# Altium footprint library Virtex.PcbLib: 51 footprints (part 2 of 4)
Each footprint in its own frame and in the unit in brackets; x right, y up, seen from the top. Pads: shape width x height; smd on the part's side, far side on the other; paste and mask are expansions set on the pad; w line width, h text height; cw(c..) or ccw(c..) is an arc to the next point about the centre after c.
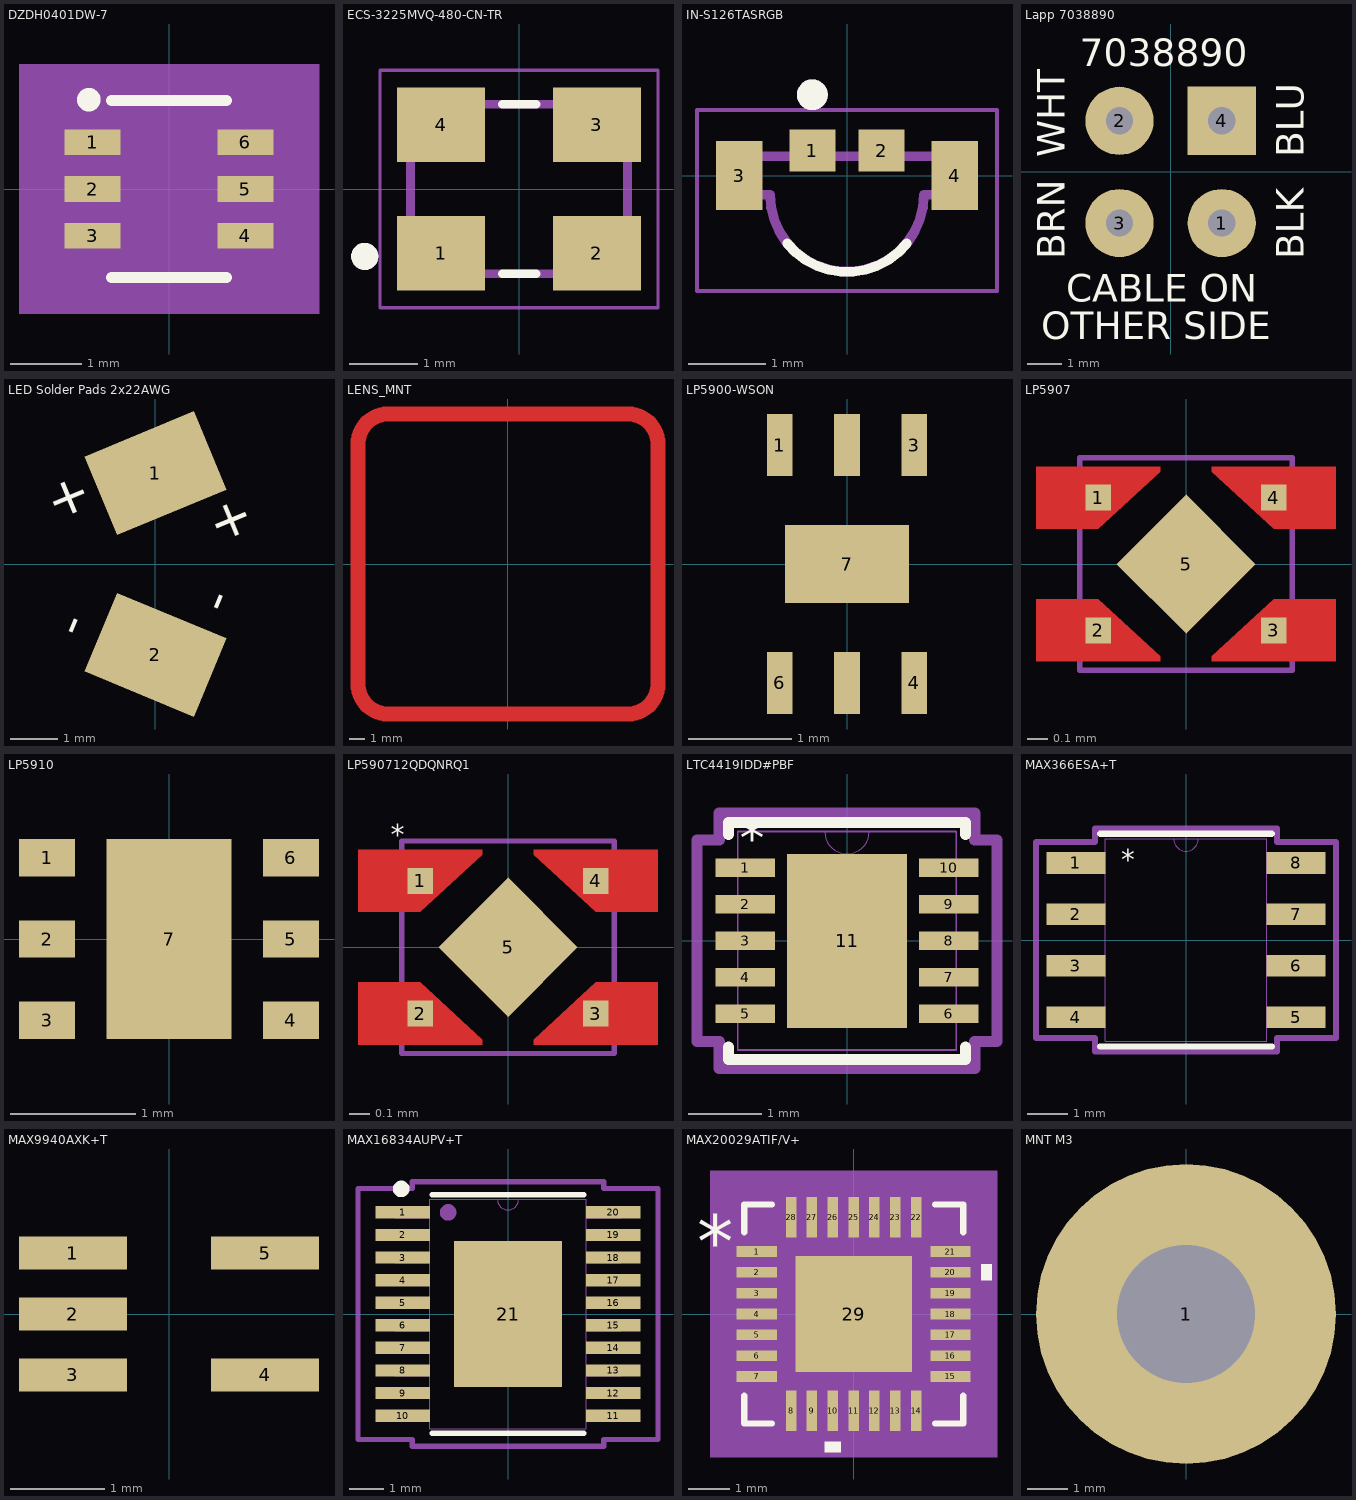
[diagram p1: the footprints below, top view; thin cyan lines are the x and y axes]

## DZDH0401DW-7 [mil]
pads (6):
  rect 30.81x14 smd paste+0 mask+0: 1(-41.9,25.59) 2(-41.9,0) 3(-41.9,-25.59) 4(41.9,-25.59) 5(41.9,0) 6(41.9,25.59)
Top Overlay:
  circle w10: c-44,49 r1.41
  lines w6: -31.5,-48.5 31.5,-48.5 ; -31.5,48.5 31.5,48.5
Bottom Courtyard:
  region: 82.31,-68.5 -82.31,-68.5 -82.31,68.5 82.31,68.5
Mechanical 13:
  lines w0: -12,43.5 ccw(c0,43.5) 12,43.5
  lines w1: -43.31,-31.59 -26.5,-31.59 -26.5,-19.59 -43.31,-19.59 -43.31,-31.59 ; -43.31,-6 -26.5,-6 -26.5,6 -43.31,6 -43.31,-6 ; -43.31,19.59 -26.5,19.59 -26.5,31.59 -43.31,31.59 -43.31,19.59 ; -26.5,-43.5 -26.5,43.5 26.5,43.5 26.5,-43.5 -26.5,-43.5 ; 26.5,-31.59 43.31,-31.59 43.31,-19.59 26.5,-19.59 26.5,-31.59 ; 26.5,-6 43.31,-6 43.31,6 26.5,6 26.5,-6 ; 26.5,19.59 43.31,19.59 43.31,31.59 26.5,31.59 26.5,19.59
  text "*" at -24,-9.5 h50
Mechanical 15:
  region: -36.5,-42.59 -67.31,-42.59 -67.31,42.59 -36.5,42.59 -36.5,53.5 36.5,53.5 36.5,42.59 67.31,42.59 67.31,-42.59 36.5,-42.59 36.5,-53.5 -36.5,-53.5
  lines w6: -67.31,-42.59 -36.5,-42.59 -36.5,-53.5 36.5,-53.5 36.5,-42.59 67.31,-42.59 67.31,42.59 36.5,42.59 36.5,53.5 -36.5,53.5 -36.5,42.59 -67.31,42.59 -67.31,-42.59
3D body "SOIC6_DZDH0401DW-7_DIO.step": height 43.11, standoff 0, extent -43.31,-43.5 43.31,43.5

## ECS-3225MVQ-480-CN-TR [mm]
pads (4):
  rect 1.3x1.1 smd: 1(-1.15,-0.95) 2(1.15,-0.95) 3(1.15,0.95) 4(-1.15,0.95)
Top Overlay:
  circle w0.2: c-2.275,-0.994 r0.1
  lines w0.127: -0.25,-1.25 0.25,-1.25 ; -0.25,1.25 0.25,1.25
Mechanical 13:
  circle w0.2: c-2.275,-0.994 r0.1
  lines w0.127: -1.6,-1.25 -1.6,1.25 1.6,1.25 1.6,-1.25 -1.6,-1.25
Mechanical 15:
  lines w0.05: -2.05,-1.75 2.05,-1.75 2.05,1.75 -2.05,1.75 -2.05,-1.75
3D body "ECS-3225MVQ-480-CN-TR.step": height 1.21, standoff 0.01, extent -1.6,-1.255 1.6,1.245

## IN-S126TASRGB [mm]
pads (4):
  rect 0.6x0.55 smd: 1(-0.45,0.325) 2(0.45,0.325)
  rect 0.6x0.9 smd: 3(-1.4,0) 4(1.4,0)
Top Overlay:
  circle w0.2: c-0.45,1.05 r0.1
  lines w0.127: -0.777,-0.884 ccw(c0,-0.254) 0.777,-0.884
Mechanical 13:
  circle w0.2: c-0.45,1.05 r0.1
  lines w0.127: -1.6,-0.25 -1.6,0.25 1.6,0.25 1.6,-0.25 1,-0.25 cw(c0,-0.25) -1,-0.25 -1.6,-0.25
Mechanical 15:
  lines w0.05: -1.95,-1.5 -1.95,0.85 1.95,0.85 1.95,-1.5 -1.95,-1.5
3D body "IN-S126TASRGB.STEP": height 1, standoff 0, extent -1.6,-1.241 1.6,0.25

## Lapp 7038890 [mm]
pads (4):
  round 2 hole 0.8: 1(1.5,-1.5) 2(-1.5,1.5) 3(-1.5,-1.5)
  rect 2x2 hole 0.8: 4(1.5,1.5)
Top Overlay:
  text "OTHER SIDE" at -3.799,-4.9 h0.8
  text "7038890" at -2.666,3.1 h0.8
  text "CABLE ON" at -3.066,-3.8 h0.8
  text "BLU" at 3.9,0.434 h0.8
  text "BLK" at 3.9,-2.566 h0.8
  text "WHT" at -3.1,0.434 h0.8
  text "BRN" at -3.1,-2.566 h0.8
Bottom Overlay:
  text "BLK" at 3.1,-2.566 h0.8
  text "BLU" at 3.1,0.434 h0.8
  text "CABLE ON" at 3.066,-3.8 h0.8
  text "THIS SIDE" at 3.332,-4.9 h0.8
  text "BRN" at -3.9,-2.566 h0.8
  text "7038890" at 2.666,3.1 h0.8
  text "WHT" at -3.9,0.434 h0.8

## LED Solder Pads 2x22AWG [mm]
pads (2):
  rect 2.5x1.8 smd rot 22.5: 1(0,1.916)
  rect 2.5x1.8 smd rot 157.5 paste+0: 2(0,-1.916)
Top Overlay:
  text "-" at -1.533,-1.599 h0.8
  text "+" at -1.329,1.107 h0.8
  text "+" at 1.307,0.429 h0.8
  text "-" at 1.133,-0.501 h0.8

## LENS_MNT [mm]
Top Layer:
  lines w1: -10,-8 ccw(c-8,-8) -8,-10 8,-10 ccw(c8,-8) 10,-8 10,8 ccw(c8,8) 8,10 -8,10 ccw(c-8,8) -10,8 -10,-8
3D body "Lens Mount (34V0-LN-MNT) v81.step": height 0, standoff -14.5, extent -19.193,-19.193 19.193,19.193

## LP5900-WSON [mm]
pads (7):
  rrect0% 0.25x0.6 smd: 1(-0.65,1.15) 3(0.65,1.15) 4(0.65,-1.15) 6(-0.65,-1.15) ""(0,-1.15) ""(0,1.15)
  rrect0% 1.2x0.75 smd: 7(0,0)
3D body "LP5900-WSON.step": height 0.8, standoff 0, extent -1.092,-1.25 1.108,1.25

## LP5907 [mil]
pads (5):
  rect 5x5 smd: 1(-16.93,12.8) 2(-16.93,-12.8) 3(16.93,-12.8) 4(16.93,12.8)
  rect 19x19 smd rot 45 paste-9.5 mask+0: 5(0,0)
Top Layer:
  region: -4.93,17.8 -4.93,18.8 -28.93,18.8 -28.93,6.8 -16.93,6.8
  region: 4.93,17.8 4.93,18.8 28.93,18.8 28.93,6.8 16.93,6.8
  region: 4.93,-17.8 4.93,-18.8 28.93,-18.8 28.93,-6.8 16.93,-6.8
  region: 0,-9.5
  region: 0,9.5
  region: -4.93,-17.8 -4.93,-18.8 -28.93,-18.8 -28.93,-6.8 -16.93,-6.8
Top Solder:
  region: 0,-9.5
  region: 0,9.5
Mechanical 13:
  lines w1: -20.5,-20.5 -20.5,20.5 20.5,20.5 20.5,-20.5 -20.5,-20.5
  text "*" at -23.45,20.26 h3.94
3D body "LP590712QDQNRQ1.stp": height 14.39, standoff 0.21, extent -19.69,-19.68 19.68,19.69

## LP5910 [mm]
pads (7):
  rect 0.45x0.3 smd: 1(-0.975,0.65) 2(-0.975,0) 3(-0.975,-0.65) 4(0.975,-0.65) 5(0.975,0) 6(0.975,0.65)
  rect 1x1.6 smd: 7(0,0)
3D body "LP5910-18DRVR.step": height 0.8, standoff 0, extent -1,-1 1,1

## LP590712QDQNRQ1 [mil]
pads (5):
  rect 5x5 smd: 1(-16.93,12.8) 2(-16.93,-12.8) 3(16.93,-12.8) 4(16.93,12.8)
  rect 19x19 smd rot 45 paste-9.5 mask+0: 5(0,0)
Top Layer:
  region: -4.93,-17.8 -4.93,-18.8 -28.93,-18.8 -28.93,-6.8 -16.93,-6.8
  region: 0,9.5
  region: 0,-9.5
  region: 4.93,-17.8 4.93,-18.8 28.93,-18.8 28.93,-6.8 16.93,-6.8
  region: 4.93,17.8 4.93,18.8 28.93,18.8 28.93,6.8 16.93,6.8
  region: -4.93,17.8 -4.93,18.8 -28.93,18.8 -28.93,6.8 -16.93,6.8
Top Overlay:
  text "*" at -22.61,19.74 h3.94
Top Solder:
  region: 0,9.5
  region: 0,-9.5
Mechanical 13:
  lines w1: -20.5,-20.5 20.5,-20.5 20.5,20.5 -20.5,20.5 -20.5,-20.5
3D body "LP590712QDQNRQ1.stp": height 14.39, standoff 0.21, extent -19.69,-19.68 19.68,19.69

## LTC4419IDD#PBF [mil]
pads (11):
  rect 32x10 smd paste+0 mask+0: 1(-55,39.37) 2(-55,19.68) 3(-55,0) 4(-55,-19.68) 5(-55,-39.37) 6(55,-39.37) 7(55,-19.68) 8(55,0) 9(55,19.68) 10(55,39.37)
  rect 65x94 smd paste+0 mask+0: 11(0,0)
Top Overlay:
  lines w6: -64,-57.47 -64,-64 64,-64 64,-57.47 ; -64,57.47 -64,64 64,64 64,57.47
  text "*" at -58.03,45.69 h19.68
Mechanical 13:
  lines w0: -12,59 ccw(c0,59) 12,59
  lines w1: -59,-59 -59,59 59,59 59,-59 -59,-59
Mechanical 15:
  lines w6: -81,-54.37 -69,-54.37 -69,-69 69,-69 69,-54.37 81,-54.37 81,54.37 69,54.37 69,69 -69,69 -69,54.37 -81,54.37 -81,-54.37
3D body: height 10, standoff 0, extent 0,0 10,10
3D body "LTC4419IDD#PBF.step": height 31.5, standoff 0, extent -59,-59.06 59.11,59.06

## MAX366ESA+T [mil]
pads (8):
  rect 57.5x21 smd paste+0 mask+0: 1(-107.25,75) 2(-107.25,25) 3(-107.25,-25) 4(-107.25,-75) 5(107.25,-75) 6(107.25,-25) 7(107.25,25) 8(107.25,75)
Top Overlay:
  lines w6: -83.5,-103.5 83.5,-103.5 ; -83.5,103.5 83.5,103.5
  text "*" at -63,69 h19.68
Mechanical 13:
  lines w0: -12,98.5 ccw(c0,98.5) 12,98.5
  lines w1: -122,-84.5 -78.5,-84.5 -78.5,-65.5 -122,-65.5 -122,-84.5 ; -122,-34.5 -78.5,-34.5 -78.5,-15.5 -122,-15.5 -122,-34.5 ; -122,15.5 -78.5,15.5 -78.5,34.5 -122,34.5 -122,15.5 ; -122,65.5 -78.5,65.5 -78.5,84.5 -122,84.5 -122,65.5 ; -78.5,-98.5 -78.5,98.5 78.5,98.5 78.5,-98.5 -78.5,-98.5 ; 78.5,-84.5 122,-84.5 122,-65.5 78.5,-65.5 78.5,-84.5 ; 78.5,-34.5 122,-34.5 122,-15.5 78.5,-15.5 78.5,-34.5 ; 78.5,15.5 122,15.5 122,34.5 78.5,34.5 78.5,15.5 ; 78.5,65.5 122,65.5 122,84.5 78.5,84.5 78.5,65.5
  text "*" at -63,69 h19.68
Mechanical 15:
  lines w6: -146,-95.5 -88.5,-95.5 -88.5,-108.5 88.5,-108.5 88.5,-95.5 146,-95.5 146,95.5 88.5,95.5 88.5,108.5 -88.5,108.5 -88.5,95.5 -146,95.5 -146,-95.5
3D body: height 10, standoff 0, extent 0,0 10,10
3D body "MAX366ESA+T.step": height 69.09, standoff 0, extent -122,-97.5 122.01,99.51

## MAX9940AXK+T [mm]
pads (5):
  rect 1.15x0.35 smd paste+0 mask+0: 1(-1.025,0.65) 2(-1.025,0) 3(-1.025,-0.65) 4(1.025,-0.65) 5(1.025,0.65)
3D body "MAX9940.step": height 1.09, standoff 0, extent -1.194,-1.105 1.194,1.105

## MAX16834AUPV+T [mil]
pads (21):
  rect 61.5x14 smd paste+0 mask+0: 1(-119.25,115.16) 2(-119.25,89.57) 3(-119.25,63.98) 4(-119.25,38.39) 5(-119.25,12.8) 6(-119.25,-12.8) 7(-119.25,-38.39) 8(-119.25,-63.98) 9(-119.25,-89.57) 10(-119.25,-115.16) 11(119.25,-115.16) 12(119.25,-89.57) 13(119.25,-63.98) 14(119.25,-38.39) 15(119.25,-12.8) 16(119.25,12.8) 17(119.25,38.39) 18(119.25,63.98) 19(119.25,89.57) 20(119.25,115.16)
  rect 122x165 smd paste-82 mask+0: 21(0,0)
Top Overlay:
  circle w10: c-121.06,141.73 r4.4
  lines w6: -85.92,-135 85.92,-135 ; -85.92,135 85.92,135
Top Paste:
  region: 57.06,-31.44 3.94,-31.44 3.94,-78.56 57.06,-78.56
  region: 57.06,23.56 3.94,23.56 3.94,-23.56 57.06,-23.56
  region: 57.06,78.56 3.94,78.56 3.94,31.44 57.06,31.44
  region: -3.94,-31.44 -57.06,-31.44 -57.06,-78.56 -3.94,-78.56
  region: -3.94,23.56 -57.06,23.56 -57.06,-23.56 -3.94,-23.56
  region: -3.94,78.56 -57.06,78.56 -57.06,31.44 -3.94,31.44
Mechanical 13:
  circle w10: c-67.91,115.16 r4.4
  lines w0: -12,130 ccw(c0,130) 12,130
  lines w1: -128,-121.16 -88.5,-121.16 -88.5,-109.16 -128,-109.16 -128,-121.16 ; -128,-95.57 -88.5,-95.57 -88.5,-83.57 -128,-83.57 -128,-95.57 ; -128,-69.98 -88.5,-69.98 -88.5,-57.98 -128,-57.98 -128,-69.98 ; -128,-44.39 -88.5,-44.39 -88.5,-32.39 -128,-32.39 -128,-44.39 ; -128,-18.8 -88.5,-18.8 -88.5,-6.8 -128,-6.8 -128,-18.8 ; -128,6.8 -88.5,6.8 -88.5,18.8 -128,18.8 -128,6.8 ; -128,32.39 -88.5,32.39 -88.5,44.39 -128,44.39 -128,32.39 ; -128,57.98 -88.5,57.98 -88.5,69.98 -128,69.98 -128,57.98 ; -128,83.57 -88.5,83.57 -88.5,95.57 -128,95.57 -128,83.57 ; -128,109.16 -88.5,109.16 -88.5,121.16 -128,121.16 -128,109.16 ; -88.5,-130 -88.5,130 88.5,130 88.5,-130 -88.5,-130 ; 88.5,-121.16 128,-121.16 128,-109.16 88.5,-109.16 88.5,-121.16 ; 88.5,-95.57 128,-95.57 128,-83.57 88.5,-83.57 88.5,-95.57 ; 88.5,-69.98 128,-69.98 128,-57.98 88.5,-57.98 88.5,-69.98 ; 88.5,-44.39 128,-44.39 128,-32.39 88.5,-32.39 88.5,-44.39 ; 88.5,-18.8 128,-18.8 128,-6.8 88.5,-6.8 88.5,-18.8 ; 88.5,6.8 128,6.8 128,18.8 88.5,18.8 88.5,6.8 ; 88.5,32.39 128,32.39 128,44.39 88.5,44.39 88.5,32.39 ; 88.5,57.98 128,57.98 128,69.98 88.5,69.98 88.5,57.98 ; 88.5,83.57 128,83.57 128,95.57 88.5,95.57 88.5,83.57 ; 88.5,109.16 128,109.16 128,121.16 88.5,121.16 88.5,109.16
Mechanical 15:
  lines w6: -170,-142.16 -108.5,-142.16 -108.5,-150 108.5,-150 108.5,-142.16 170,-142.16 170,142.16 108.5,142.16 108.5,150 -108.5,150 -108.5,142.16 -170,142.16 -170,-142.16
3D body: height 10, standoff 0, extent 0,0 10,10
3D body "MAX16834AUPV+T.step": height 43.11, standoff -2.01, extent -127.99,-130 127.99,130

## MAX20029ATIF/V+ [mil]
pads (29):
  rect 38x10 smd paste+0 mask+0: 1(-91.5,59.06) 2(-91.5,39.37) 3(-91.5,19.68) 4(-91.5,0) 5(-91.5,-19.68) 6(-91.5,-39.37) 7(-91.5,-59.06) 15(91.5,-59.06) 16(91.5,-39.37) 17(91.5,-19.68) 18(91.5,0) 19(91.5,19.68) 20(91.5,39.37) 21(91.5,59.06)
  rect 10x38 smd paste+0 mask+0: 8(-59.06,-91.5) 9(-39.37,-91.5) 10(-19.68,-91.5) 11(0,-91.5) 12(19.68,-91.5) 13(39.37,-91.5) 14(59.06,-91.5) 22(59.06,91.5) 23(39.37,91.5) 24(19.68,91.5) 25(0,91.5) 26(-19.68,91.5) 27(-39.37,91.5) 28(-59.06,91.5)
  rect 110x110 smd paste-54.5 mask+0: 29(0,0)
Top Overlay:
  region: -12.19,-120.5 -27.18,-120.5 -27.18,-130.5 -12.19,-130.5
  region: 120.5,46.87 130.5,46.87 130.5,31.87 120.5,31.87
  lines w6: -103.5,-77.16 -103.5,-103.5 -77.16,-103.5 ; -103.5,77.16 -103.5,103.5 -77.16,103.5 ; 77.16,-103.5 103.5,-103.5 103.5,-77.16 ; 77.16,103.5 103.5,103.5 103.5,77.16
  text "*" at -148,43.9 h50
Top Paste:
  region: -3.94,51.06 -51.06,51.06 -51.06,3.94 -3.94,3.94
  region: -3.94,-3.94 -51.06,-3.94 -51.06,-51.06 -3.94,-51.06
  region: 51.06,51.06 3.94,51.06 3.94,3.94 51.06,3.94
  region: 51.06,-3.94 3.94,-3.94 3.94,-51.06 51.06,-51.06
Bottom Courtyard:
  region: 135.5,-135.5 -135.5,-135.5 -135.5,135.5 135.5,135.5
Mechanical 13:
  lines w1: -98.5,48.5 -48.5,98.5 ; -98.5,-98.5 98.5,-98.5 98.5,98.5 -98.5,98.5 -98.5,-98.5 ; -98.5,-65.06 -98.5,-53.06 -98.5,-65.06 ; -98.5,-45.37 -98.5,-33.37 -98.5,-45.37 ; -98.5,-25.68 -98.5,-13.69 -98.5,-25.68 ; -98.5,-6 -98.5,6 -98.5,-6 ; -98.5,13.69 -98.5,25.68 -98.5,13.69 ; -98.5,33.37 -98.5,45.37 -98.5,33.37 ; -98.5,53.06 -98.5,65.06 -98.5,53.06 ; -65.06,-98.5 -53.06,-98.5 -65.06,-98.5 ; -65.06,98.5 -53.06,98.5 -65.06,98.5 ; -45.37,-98.5 -33.37,-98.5 -45.37,-98.5 ; -45.37,98.5 -33.37,98.5 -45.37,98.5 ; -25.68,-98.5 -13.69,-98.5 -25.68,-98.5 ; -25.68,98.5 -13.69,98.5 -25.68,98.5 ; -6,-98.5 6,-98.5 -6,-98.5 ; -6,98.5 6,98.5 -6,98.5 ; 13.69,-98.5 25.68,-98.5 13.69,-98.5 ; 13.69,98.5 25.68,98.5 13.69,98.5 ; 33.37,-98.5 45.37,-98.5 33.37,-98.5 ; 33.37,98.5 45.37,98.5 33.37,98.5 ; 53.06,-98.5 65.06,-98.5 53.06,-98.5 ; 53.06,98.5 65.06,98.5 53.06,98.5 ; 98.5,-65.06 98.5,-53.06 98.5,-65.06 ; 98.5,-45.37 98.5,-33.37 98.5,-45.37 ; 98.5,-25.68 98.5,-13.69 98.5,-25.68 ; 98.5,-6 98.5,6 98.5,-6 ; 98.5,13.69 98.5,25.68 98.5,13.69 ; 98.5,33.37 98.5,45.37 98.5,33.37 ; 98.5,53.06 98.5,65.06 98.5,53.06
  text "*" at -85,43.9 h50
Mechanical 15:
  region: -74.06,-108.5 -108.5,-108.5 -108.5,-74.06 -120.5,-74.06 -120.5,74.06 -108.5,74.06 -108.5,108.5 -74.06,108.5 -74.06,120.5 74.06,120.5 74.06,108.5 108.5,108.5 108.5,74.06 120.5,74.06 120.5,-74.06 108.5,-74.06 108.5,-108.5 74.06,-108.5 74.06,-120.5 -74.06,-120.5
  lines w6: -120.5,-74.06 -108.5,-74.06 -108.5,-108.5 -74.06,-108.5 -74.06,-120.5 74.06,-120.5 74.06,-108.5 108.5,-108.5 108.5,-74.06 120.5,-74.06 120.5,74.06 108.5,74.06 108.5,108.5 74.06,108.5 74.06,120.5 -74.06,120.5 -74.06,108.5 -108.5,108.5 -108.5,74.06 -120.5,74.06 -120.5,-74.06
3D body "21-0140AK_T2855+5_MXM.step": height 32.09, standoff 0, extent -98.5,-98.5 98.5,98.5

## MNT M3 [mm]
pads (1):
  round 7.4 / inner round 4 / far side round 7.4 hole 3.4 unplated: 1(0,0)